# Altium footprint library QFN-14(2.5X2.5).PcbLib: 1 footprints
Each footprint in its own frame and in the unit in brackets; x right, y up, seen from the top. Pads: shape width x height; smd on the part's side, far side on the other; paste and mask are expansions set on the pad; w line width, h text height; cw(c..) or ccw(c..) is an arc to the next point about the centre after c.
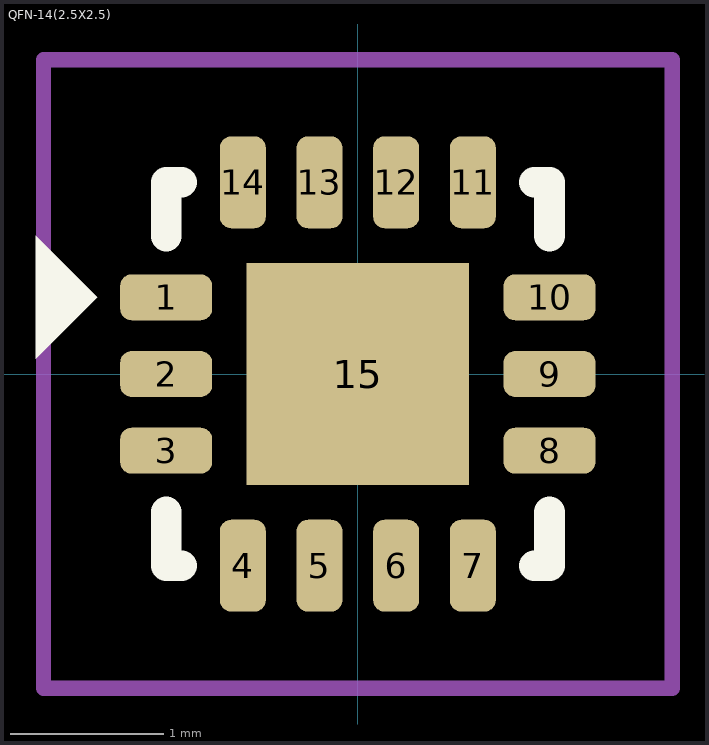
[diagram p0: the footprint, top view; thin cyan lines are the x and y axes]

## QFN-14(2.5X2.5) [mm]
height 0.75
pads (15):
  rrect50% 0.6x0.3 smd: 1(-1.25,0.5) 2(-1.25,0) 3(-1.25,-0.5) 8(1.25,-0.5) 9(1.25,0) 10(1.25,0.5)
  rrect50% 0.3x0.6 smd: 4(-0.75,-1.25) 5(-0.25,-1.25) 6(0.25,-1.25) 7(0.75,-1.25) 11(0.75,1.25) 12(0.25,1.25) 13(-0.25,1.25) 14(-0.75,1.25)
  rect 1.45x1.45 smd: 15(0,0)
Top Overlay:
  region: -2.1,0.1 -2.1,0.9 -1.7,0.5
  lines w0.2: -1.25,-0.9 -1.25,-1.25 -1.15,-1.25 ; -1.25,0.9 -1.25,1.25 -1.15,1.25 ; 1.15,-1.25 1.25,-1.25 1.25,-0.9 ; 1.15,1.25 1.25,1.25 1.25,0.9
Top Courtyard:
  lines w0.1: -2.05,-2.05 2.05,-2.05 2.05,2.05 -2.05,2.05 -2.05,-2.05
3D body "QFN127P600-8N.step": height 0.75, standoff 0, extent -1.26,-1.26 1.26,1.26